# Altium footprint library VBlib_Anthennas.PcbLib: 4 footprints
Each footprint in its own frame and in the unit in brackets; x right, y up, seen from the top. Pads: shape width x height; smd on the part's side, far side on the other; paste and mask are expansions set on the pad; w line width, h text height; cw(c..) or ccw(c..) is an arc to the next point about the centre after c.
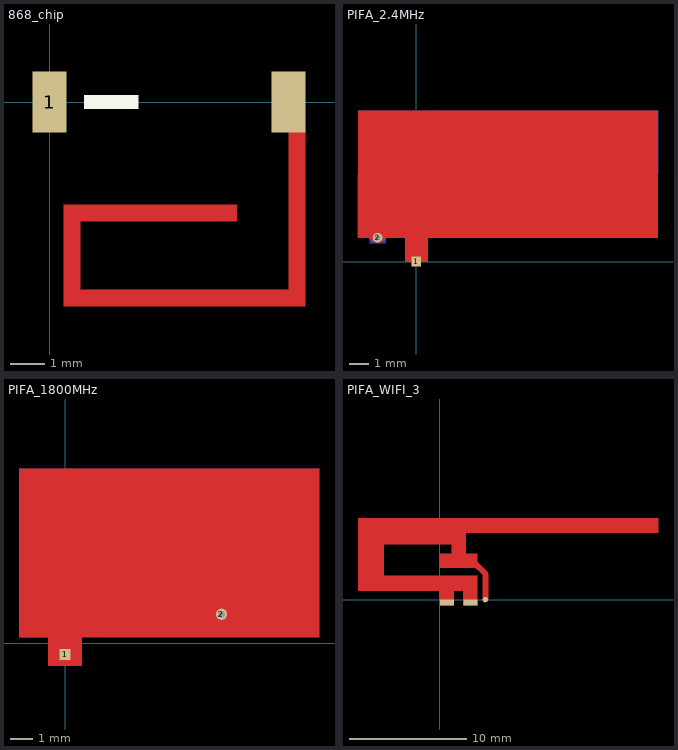
[diagram p0: the footprints below, top view; thin cyan lines are the x and y axes]

## 868_chip [mm]
pads (2):
  rect 1x1.8 smd mask+0: 1(0,0) ""(7,0)
Top Layer:
  rectangle: 0.4,-3.5 5.5,-3
  rectangle: 0.4,-6 0.9,-3
  rectangle: 0.4,-6 7.5,-5.5
  rectangle: 7,-6 7.5,-0.8
Top Overlay:
  rectangle: 1,-0.2 2.6,0.2

## PIFA_2.4MHz [mm] "WIFI PCB Antenna mod.2"
pads (2):
  rect 0.5x0.5 smd: 1(0,0)
  round 0.5 hole 0.3: 2(-1.99,1.226)
Top Layer:
  rectangle: -0.127,1.226 0.125,6.767
  rectangle: 11.307,5.155 11.811,6.767
  rectangle: 9.091,6.767 11.811,7.271
  rectangle: 9.091,4.652 9.595,6.767
  rectangle: 7.075,4.652 9.091,5.155
  rectangle: 6.573,4.652 7.075,6.767
  rectangle: 4.356,6.767 7.075,7.27
  rectangle: 4.356,4.652 4.86,6.767
  rectangle: 2.342,4.652 4.356,5.155
  rectangle: 1.838,4.652 2.342,6.767
  rectangle: -1.537,6.767 2.342,7.271
  rectangle: -2.444,1.226 -1.537,7.271
  pour cut-out: -3,7.745 12.425,7.745 12.425,1.22 -3,1.22
  region: 0.26,-0.285
  region: 0.126,1.241 0.424,0.199 0.424,0.041 -0.426,0.041 -0.426,0.199 -0.128,1.241
  pour cut-out: -0.575,1.245 0.575,1.245 0.575,0 -0.575,0
  region: -2.444,1.226 -2.32,1.102 -2.288,1.071 -2.214,1.021 -2.132,0.987 -2.045,0.97 -2,0.97 -1.951,0.97 -1.854,0.989 -1.764,1.027 -1.682,1.081 -1.647,1.116 -1.537,1.226
  lines w0.013: 2.342,5.155 4.356,5.155
Bottom Layer:
  pour cut-out: -3,7.745 12.425,7.745 12.425,1.22 -3,1.22
  region: -2.4,0.945 -2.4,1.22 -2.213,1.407 -2.192,1.428 -2.143,1.461 -2.088,1.483 -2.03,1.495 -2,1.495 -1.964,1.495 -1.894,1.481 -1.828,1.454 -1.769,1.414 -1.744,1.389 -1.575,1.22 -1.575,0.945

## PIFA_1800MHz [mm] "WIFI PCB Antenna mod.2"
pads (2):
  rect 0.5x0.5 smd: 1(0,-0.5)
  round 0.5 hole 0.3 unplated: 2(6.93,1.28)
Top Layer:
  region: 7.15,3.045 7.15,3.545 5.5,3.545 5.5,3.045
  region: 10.84,6.855 10.84,7.355 6.65,7.355 6.65,6.855
  region: 6,6.855 6,7.355 4.35,7.355 4.35,6.855
  region: 6,6.855 5.5,6.855 5.5,3.045 6,3.045
  region: 7.15,6.855 6.65,6.855 6.65,3.045 7.15,3.045
  region: 3.7,6.855 3.7,7.355 2.05,7.355 2.05,6.855
  region: 3.7,6.855 3.2,6.855 3.2,3.045 3.7,3.045
  region: 4.85,3.045 4.85,3.545 3.2,3.545 3.2,3.045
  region: 4.85,6.855 4.35,6.855 4.35,3.045 4.85,3.045
  region: 2.55,6.855 2.05,6.855 2.05,3.045 2.55,3.045
  region: 2.55,3.045 2.55,3.545 0.9,3.545 0.9,3.045
  region: 1.4,6.855 0.9,6.855 0.9,3.045 1.4,3.045
  region: 1.4,6.855 1.4,7.355 -0.25,7.355 -0.25,6.855
  region: 0.25,7.355 -0.25,7.355 -0.25,0.27 0.25,0.27
  region: 7.18,1.03 7.18,1.53 0.25,1.53 0.25,1.03
  pour cut-out: -2.04,7.735 11.25,7.735 11.25,0.27 -2.04,0.27
  region: 0.26,0.27
  region: 0.25,0.27 0.55,-0.78 0.55,-1 -0.55,-1 -0.55,-0.78 -0.25,0.27
  pour cut-out: -0.75,0.27 0.75,0.27 0.75,-1 -0.75,-1
Bottom Layer:
  pour cut-out: -2.04,7.735 11.25,7.735 11.25,1.775 -2.04,1.775
  pour cut-out: -2.04,1.775 0.75,1.775 0.75,0.27 -2.04,0.27

## PIFA_WIFI_3 [mm]
pads (3):
  rect 1.2x0.5 smd: 1(0.6,-0.25) 2(2.6,-0.25)
  round 0.46 smd: 3(3.88,0)
Top Layer:
  region: -4.8,2.03 -4.8,4.7 1,4.7 1,3.9 0,3.9 0,2.69 3.2,2.69 3.2,3.9 2.2,3.9 2.2,5.7 18.6,5.7 18.6,6.91 -6.98,6.91 -6.98,0.74 0,0.74 0,-0.5 1.2,-0.5 1.2,0.74 2,0.74 2,-0.5 3.2,-0.5 3.2,2.03
  region: 2.817,2.927 3.65,2.095 3.65,0 3.65,-0.046 3.685,-0.13 3.749,-0.195 3.834,-0.23 3.926,-0.23 4.01,-0.195 4.075,-0.13 4.11,-0.046 4.11,0 4.11,2.19 4.11,2.213 4.101,2.257 4.084,2.3 4.059,2.337 4.042,2.353 3.143,3.253 3.11,3.285 3.026,3.32 2.934,3.32 2.85,3.285 2.785,3.22 2.75,3.136 2.75,3.044 2.785,2.959
  lines w0.46: 2.98,3.14 2.98,3.09 3.88,2.19 3.88,0